# Altium footprint library HSOP-16.PcbLib: 1 footprints
Each footprint in its own frame and in the unit in brackets; x right, y up, seen from the top. Pads: shape width x height; smd on the part's side, far side on the other; paste and mask are expansions set on the pad; w line width, h text height; cw(c..) or ccw(c..) is an arc to the next point about the centre after c.
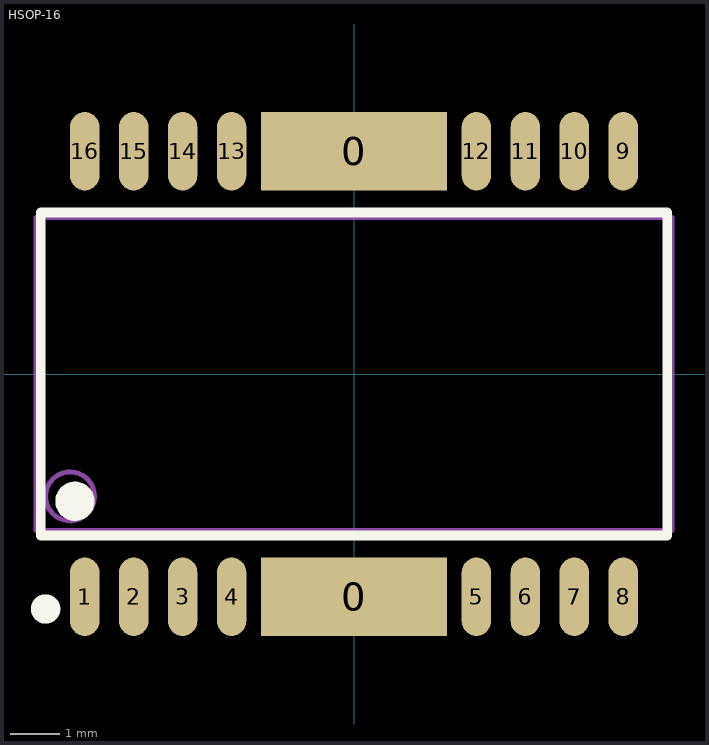
[diagram p0: the footprint, top view; thin cyan lines are the x and y axes]

## HSOP-16 [mm]
pads (18):
  rect 3.8x1.6 smd: 0(0,-4.55) 0(0,4.55)
  oval 0.6x1.6 smd: 1(-5.5,-4.55) 2(-4.5,-4.55) 3(-3.5,-4.55) 4(-2.5,-4.55) 5(2.5,-4.55) 6(3.5,-4.55) 7(4.5,-4.55) 8(5.5,-4.55) 9(5.5,4.55) 10(4.5,4.55) 11(3.5,4.55) 12(2.5,4.55) 13(-2.5,4.55) 14(-3.5,4.55) 15(-4.5,4.55) 16(-5.5,4.55)
Top Overlay:
  circle w0.4: c-5.7,-2.6 r0.2
  circle w0.3: c-6.3,-4.8 r0.15
  lines w0.2: -6.4,-3.3 -6.4,3.3 6.4,3.3 6.4,-3.3 -6.4,-3.3
Mechanical 13:
  circle w0.1: c-5.8,-2.5 r0.5
  lines w0.1: -6.5,-3.2 -6.5,3.2 6.5,3.2 6.5,-3.2 -6.5,-3.2